# EAGLE library part MICROSD2 (library MICROSD)
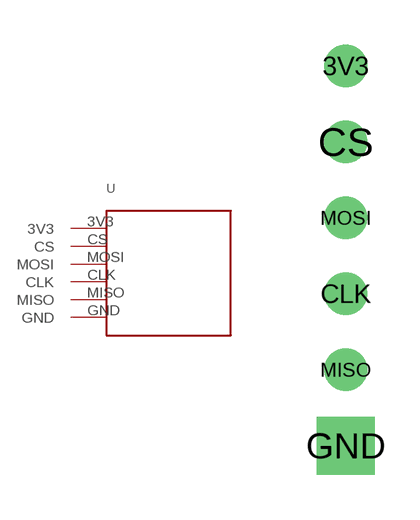
[diagram p0: symbol with the pads of MICROSD_FOOTPRINT; footprint MICROSD_FOOTPRINT]

Designator prefix -

## MICROSD2MICROSD2  [MICROSD_FOOTPRINT]
3V3  3V3
CLK  CLK
CS  CS
GND  GND
MISO  MISO
MOSI  MOSI

## Footprint MICROSD_FOOTPRINT (pad centres in mm)
drill 0.7 pad 1.422: 3V3 -13.97,6.35; CLK -13.97,-1.27; CS -13.97,3.81; MISO -13.97,-3.81; MOSI -13.97,1.27
drill 0.7 pad 1.93 square: GND -13.97,-6.35